# Altium footprint library XINGLIGHT.PcbLib: 1 footprints
Each footprint in its own frame and in the unit in brackets; x right, y up, seen from the top. Pads: shape width x height; smd on the part's side, far side on the other; paste and mask are expansions set on the pad; w line width, h text height; cw(c..) or ccw(c..) is an arc to the next point about the centre after c.
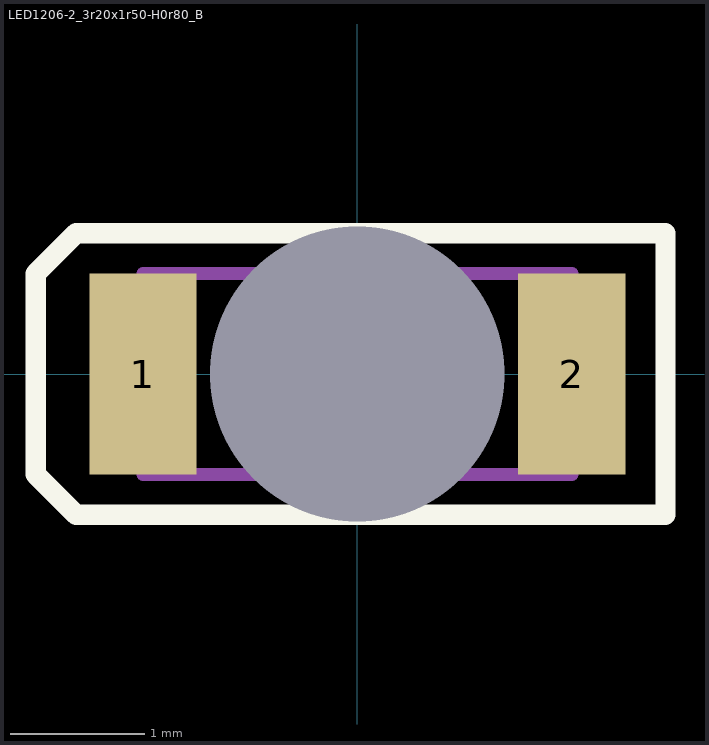
[diagram p0: the footprint, top view; thin cyan lines are the x and y axes]

## LED1206-2_3r20x1r50-H0r80_B [mm]
height 1.05
pads (3):
  rect 0.8x1.5 smd paste+0 mask+0.075: 1(-1.6,0) 2(1.6,0)
  rect 0x0 hole 2.2 square unplated: 3(0,0)
Top Overlay:
  lines w0.152: -2.4,-0.75 -2.4,0.75 -2.1,1.05 2.3,1.05 2.3,-1.05 -2.1,-1.05 -2.4,-0.75
Mechanical 13:
  lines w0.1: -0.07,0 0.08,0 ; 0.08,-0.1 0.08,0.1 ; -1.6,-0.75 -1.6,0.75 1.6,0.75 1.6,-0.75 -1.6,-0.75
3D body "LED1206-2_3r20x1r50-H0r80-PL0r65-PW1r50-LT2r00-HB0r28-KA-C.step": height 0.28, standoff -0.52, extent -1.6,-0.75 1.6,0.75